# Altium footprint library Notecarrier AF.PcbLib: 40 footprints (part 2 of 3)
Each footprint in its own frame and in the unit in brackets; x right, y up, seen from the top. Pads: shape width x height; smd on the part's side, far side on the other; paste and mask are expansions set on the pad; w line width, h text height; cw(c..) or ccw(c..) is an arc to the next point about the centre after c.
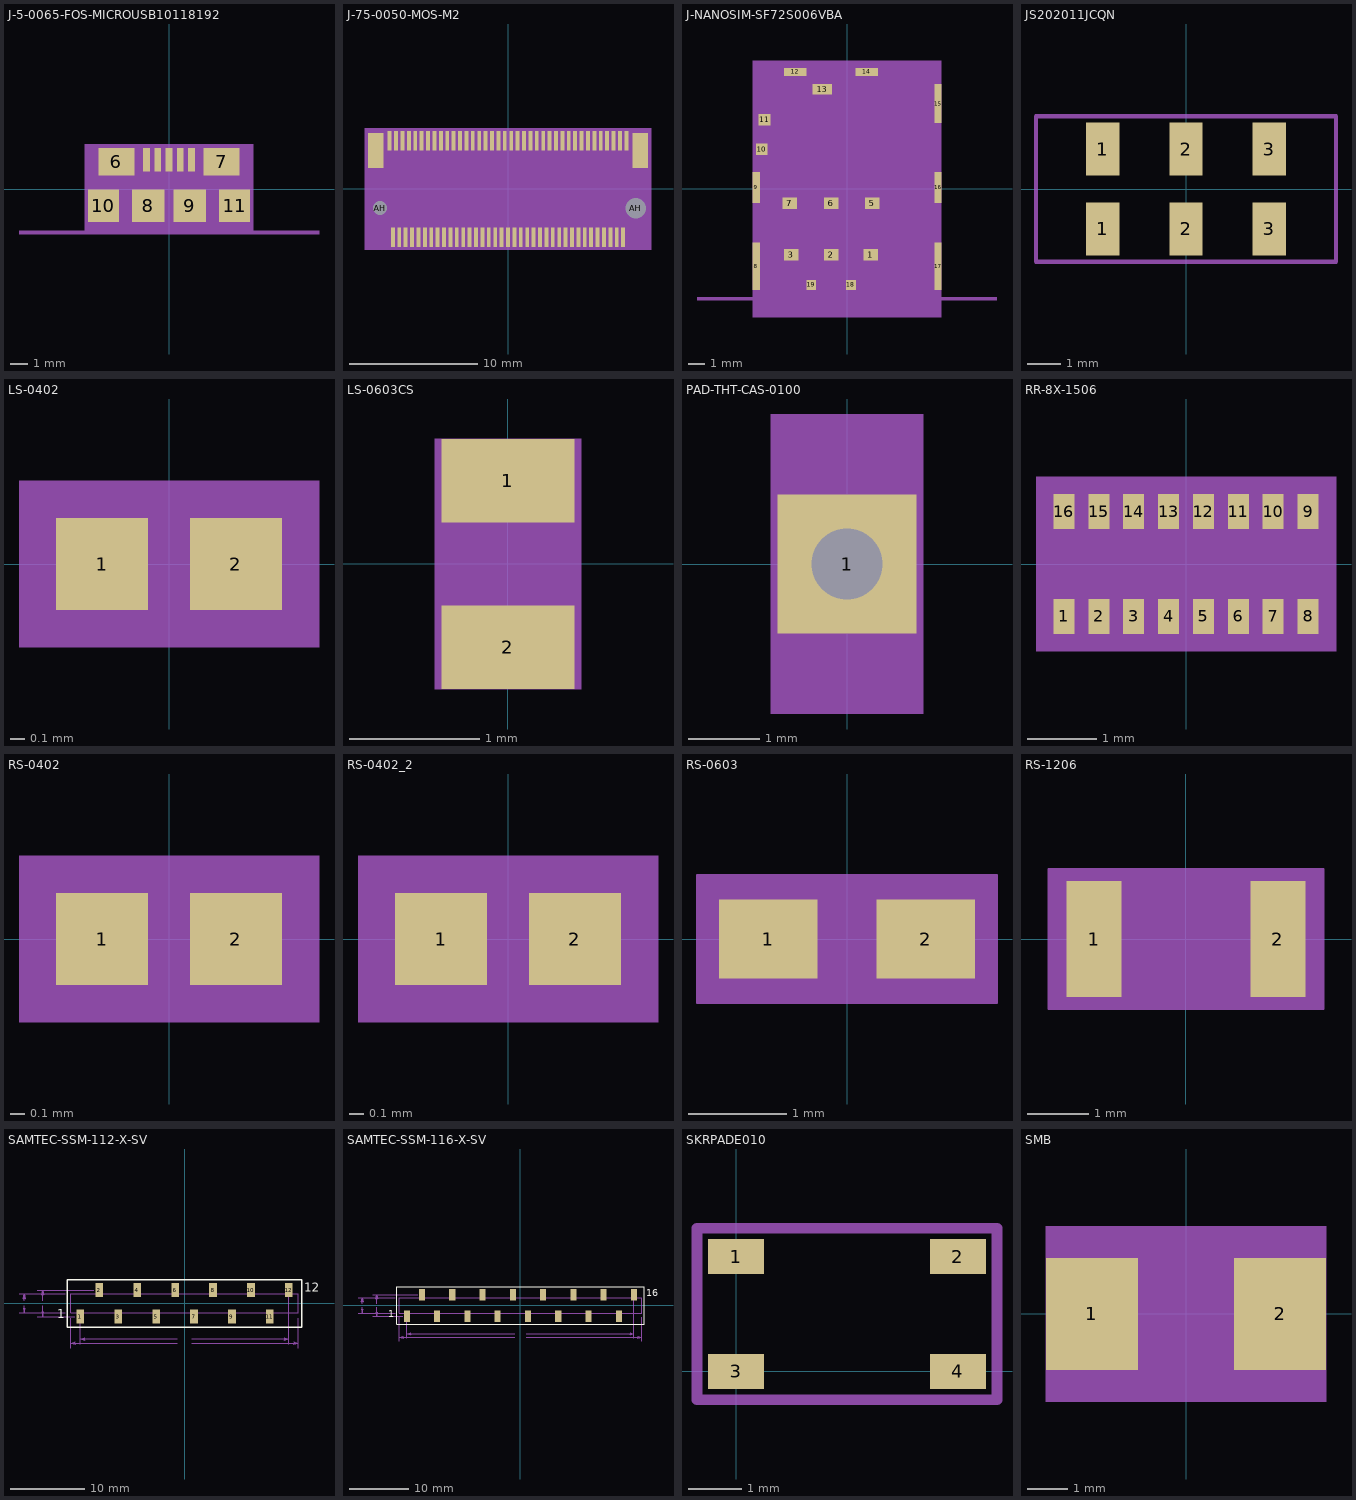
[diagram p1: the footprints below, top view; thin cyan lines are the x and y axes]

## J-5-0065-FOS-MICROUSB10118192 [mm]
pads (11):
  rect 0.4x1.35 smd: 1(-1.3,1.713) 2(-0.65,1.713) 3(0,1.713) 4(0.65,1.713) 5(1.3,1.713)
  rect 2.1x1.6 smd: 6(-3.05,1.587) 7(3.05,1.587)
  rect 1.9x1.9 smd: 8(-1.2,-0.962) 9(1.2,-0.962)
  rect 1.8x1.9 smd: 10(-3.8,-0.962) 11(3.8,-0.962)
Top 3D Body:
  region: -4.9,-2.612 -4.9,2.612 4.9,2.612 4.9,-2.612
Mechanical 19:
  text "1" at -1.3,1.583 h0.2
  text "2" at -0.65,1.583 h0.2
  text "6" at -3.05,1.433 h0.2
  text "3" at 0,1.583 h0.2
  text "5" at 1.3,1.583 h0.2
  text "4" at 0.65,1.583 h0.2
  text "7" at 3.05,1.382 h0.2
  text "8" at -1.2,-1.142 h0.2
  text "10" at -3.8,-1.222 h0.2
  text "9" at 1.2,-1.142 h0.2
  text "11" at 3.8,-1.222 h0.2
Top Assembly:
  dashed: -8.7,-2.612 -8.7,-2.412 -4.9,-2.412 -4.9,2.612 4.9,2.612 4.9,-2.412 8.7,-2.412 8.7,-2.612
  pour cut-out: 4.7,-2.412 -4.7,-2.412 -4.7,2.412 4.7,2.412
  text "EDGE" at -8.7,-2.213 h0.8
  text "EDGE" at 4.9,-2.213 h0.8
3D body "J-5-0065-FOS-MICROUSB10118192.stp": height 4.52, standoff -2.06, extent -5.773,-43.099 5.802,1.951

## J-75-0050-MOS-M2 [mm]
pads (79):
  rect 0.3x1.55 smd: 1(-9.25,3.775) 2(-9,-3.775) 3(-8.75,3.775) 4(-8.5,-3.775) 5(-8.25,3.775) 6(-8,-3.775) 7(-7.75,3.775) 8(-7.5,-3.775) 9(-7.25,3.775) 10(-7,-3.775) 11(-6.75,3.775) 12(-6.5,-3.775) 13(-6.25,3.775) 14(-6,-3.775) 15(-5.75,3.775) 16(-5.5,-3.775) 17(-5.25,3.775) 18(-5,-3.775) 19(-4.75,3.775) 20(-4.5,-3.775) 21(-4.25,3.775) 22(-4,-3.775) 23(-3.75,3.775) 24(-3.5,-3.775) 25(-3.25,3.775) 26(-3,-3.775) 27(-2.75,3.775) 28(-2.5,-3.775) 29(-2.25,3.775) 30(-2,-3.775) 31(-1.75,3.775) 32(-1.5,-3.775) 33(-1.25,3.775) 34(-1,-3.775) 35(-0.75,3.775) 36(-0.5,-3.775) 37(-0.25,3.775) 38(0,-3.775) 39(0.25,3.775) 40(0.5,-3.775) 41(0.75,3.775) 42(1,-3.775) 43(1.25,3.775) 44(1.5,-3.775) 45(1.75,3.775) 46(2,-3.775) 47(2.25,3.775) 48(2.5,-3.775) 49(2.75,3.775) 50(3,-3.775) 51(3.25,3.775) 52(3.5,-3.775) 53(3.75,3.775) 54(4,-3.775) 55(4.25,3.775) 56(4.5,-3.775) 57(4.75,3.775) 58(5,-3.775) 59(5.25,3.775) 60(5.5,-3.775) 61(5.75,3.775) 62(6,-3.775) 63(6.25,3.775) 64(6.5,-3.775) 65(6.75,3.775) 66(7,-3.775) 67(7.25,3.775) 68(7.5,-3.775) 69(7.75,3.775) 70(8,-3.775) 71(8.25,3.775) 72(8.5,-3.775) 73(8.75,3.775) 74(9,-3.775) 75(9.25,3.775)
  round 1 hole 1.1 unplated: AH(-10,-1.5)
  round 1 hole 1.6 unplated: AH(10,-1.5)
  rect 1.2x2.75 smd: ""(-10.35,3) ""(10.35,3)
Top 3D Body:
  region: -11.2,4.75 11.2,4.75 11.2,-4.75 -11.2,-4.75
Mechanical 19:
  text "71" at 8.09,3.775 h0.2
  text "73" at 8.59,3.775 h0.2
  text "69" at 7.59,3.775 h0.2
  text "75" at 9.09,3.775 h0.2
  text "61" at 5.59,3.775 h0.2
  text "63" at 6.09,3.775 h0.2
  text "59" at 5.09,3.775 h0.2
  text "67" at 7.09,3.775 h0.2
  text "65" at 6.59,3.775 h0.2
  text "53" at 3.59,3.775 h0.2
  text "49" at 2.59,3.775 h0.2
  text "51" at 3.09,3.775 h0.2
  text "47" at 2.09,3.775 h0.2
  text "57" at 4.59,3.775 h0.2
  text "55" at 4.09,3.775 h0.2
  text "39" at 0.09,3.775 h0.2
  text "41" at 0.59,3.775 h0.2
  text "37" at -0.41,3.775 h0.2
  text "45" at 1.59,3.775 h0.2
  text "43" at 1.09,3.775 h0.2
  text "68" at 7.34,-3.775 h0.2
  text "70" at 7.84,-3.775 h0.2
  text "66" at 6.84,-3.775 h0.2
  text "74" at 8.84,-3.775 h0.2
  text "72" at 8.34,-3.775 h0.2
  text "62" at 5.84,-3.775 h0.2
  text "64" at 6.34,-3.775 h0.2
  text "58" at 4.84,-3.775 h0.2
  text "60" at 5.34,-3.775 h0.2
  text "52" at 3.34,-3.775 h0.2
  text "48" at 2.34,-3.775 h0.2
  text "50" at 2.84,-3.775 h0.2
  text "46" at 1.84,-3.775 h0.2
  text "56" at 4.34,-3.775 h0.2
  text "54" at 3.84,-3.775 h0.2
  text "40" at 0.34,-3.775 h0.2
  text "38" at -0.16,-3.775 h0.2
  text "44" at 1.34,-3.775 h0.2
  text "42" at 0.84,-3.775 h0.2
  text "33" at -1.41,3.775 h0.2
  text "35" at -0.91,3.775 h0.2
  text "31" at -1.91,3.775 h0.2
  text "30" at -2.16,-3.775 h0.2
  text "29" at -2.41,3.775 h0.2
  text "21" at -4.41,3.775 h0.2
  text "23" at -3.91,3.775 h0.2
  text "19" at -4.91,3.775 h0.2
  text "27" at -2.91,3.775 h0.2
  text "25" at -3.41,3.775 h0.2
  text "11" at -6.91,3.775 h0.2
  text "13" at -6.41,3.775 h0.2
  text "9" at -7.33,3.775 h0.2
  text "17" at -5.41,3.775 h0.2
  text "15" at -5.91,3.775 h0.2
  text "5" at -8.33,3.775 h0.2
  text "7" at -7.83,3.775 h0.2
  text "3" at -8.83,3.775 h0.2
  text "1" at -9.33,3.775 h0.2
  text "28" at -2.66,-3.775 h0.2
  text "32" at -1.66,-3.775 h0.2
  text "26" at -3.16,-3.775 h0.2
  text "36" at -0.66,-3.775 h0.2
  text "34" at -1.16,-3.775 h0.2
  text "24" at -3.66,-3.775 h0.2
  text "22" at -4.16,-3.775 h0.2
  text "16" at -5.66,-3.775 h0.2
  text "12" at -6.66,-3.775 h0.2
  text "14" at -6.16,-3.775 h0.2
  text "10" at -7.16,-3.775 h0.2
  text "20" at -4.66,-3.775 h0.2
  text "18" at -5.16,-3.775 h0.2
  text "4" at -8.58,-3.775 h0.2
  text "2" at -9.08,-3.775 h0.2
  text "8" at -7.58,-3.775 h0.2
  text "6" at -8.08,-3.775 h0.2
Top Assembly:
  pour cut-out: -11,-4.55 -11,4.55 11,4.55 11,-4.55
  dashed: -11.2,4.75 11.2,4.75 11.2,-4.75 -11.2,-4.75
3D body "J-75-0050-MOS-M2.stp": height 4.1, standoff -0.6, extent -10.95,-4.374 10.95,4.326

## J-NANOSIM-SF72S006VBA [mm]
pads (18):
  rect 0.9x0.7 smd: 1(1.46,-4.05) 2(-0.98,-4.05) 3(-3.42,-4.05) 5(1.56,-0.88) 6(-0.98,-0.88) 7(-3.52,-0.88)
  rect 0.45x2.9 smd: 8(-5.575,-4.75) 17(5.6,-4.75)
  rect 0.45x1.9 smd: 9(-5.575,0.1) 16(5.6,0.1)
  rect 0.7x0.7 smd: 10(-5.25,2.45)
  rect 0.75x0.7 smd: 11(-5.075,4.25)
  rect 1.4x0.5 smd: 12(-3.18,7.2) 14(1.22,7.2)
  rect 1.2x0.65 smd: 13(-1.53,6.125)
  rect 0.45x2.4 smd: 15(5.6,5.25)
  rect 0.6x0.6 smd: 18(0.24,-5.9) 19(-2.2,-5.9)
Top 3D Body:
  region: -5.8,-7.9 -5.8,7.9 5.8,7.9 5.8,-7.9
Mechanical 17:
  text "17" at 5.76,-4.75 h0.2
  text "18" at 0.4,-5.9 h0.2
  text "5" at 1.64,-0.88 h0.2
  text "2" at -0.9,-4.05 h0.2
  text "1" at 1.54,-4.05 h0.2
  text "6" at -0.9,-0.88 h0.2
  text "19" at -2.04,-5.9 h0.2
  text "3" at -3.34,-4.05 h0.2
  text "8" at -5.495,-4.75 h0.2
  text "7" at -3.44,-0.88 h0.2
  text "16" at 5.76,0.1 h0.2
  text "15" at 5.76,5.25 h0.2
  text "13" at -1.37,6.125 h0.2
  text "14" at 1.38,7.2 h0.2
  text "9" at -5.495,0.1 h0.2
  text "12" at -3.02,7.2 h0.2
  text "10" at -5.09,2.45 h0.2
  text "11" at -4.915,4.25 h0.2
Mechanical 18:
  pour cut-out: 5.6,-6.65 -5.6,-6.65 -5.6,7.7 5.6,7.7
  dashed: -9.23,-6.85 -9.23,-6.675 -5.8,-6.675 -5.8,7.9 5.8,7.9 5.8,-6.675 9.23,-6.675 9.23,-6.85
  lines w0.025: -4.145,-5.675 -2.695,-5.675 -2.695,-2.425 -4.145,-2.425 -4.145,-5.675 ; -3.97,-1.23 -3.07,-1.23 -3.07,0.65 -3.97,0.65 -3.97,-1.23 ; -2.68,3.7 1.87,3.7 1.87,6.4 -2.68,6.4 -2.68,3.7 ; -1.705,-5.675 -0.255,-5.675 -0.255,-2.425 -1.705,-2.425 -1.705,-5.675 ; -1.43,-1.23 -0.53,-1.23 -0.53,0.65 -1.43,0.65 -1.43,-1.23 ; 0.735,-5.675 2.185,-5.675 2.185,-2.425 0.735,-2.425 0.735,-5.675 ; 1.11,-1.23 2.01,-1.23 2.01,0.65 1.11,0.65 1.11,-1.23
  text "EDGE" at 5.8,-6.475 h1
  text "EDGE" at -9.23,-6.475 h1
  text "Only GND Trace" at 3.657,4.057 h0.3
Mechanical255:
  region: -5.8,-6.85 -5.8,-6.5 -5.6,-6.5 -5.6,-6.65 5.6,-6.65 5.6,-6.5 5.8,-6.5 5.8,-6.85
  region: -5.8,3.1 -5.8,7.9 5.8,7.9 5.8,6.8 5.6,6.8 5.6,7.7 -5.6,7.7 -5.6,3.1
  region: 5.6,1.4 5.6,3.7 5.8,3.7 5.8,1.4
  region: 5.6,-3 5.6,-1.2 5.8,-1.2 5.8,-3
  region: -5.8,-3 -5.8,-1.2 -5.6,-1.2 -5.6,-3
  region: -5.8,1.8 -5.8,1.4 -5.6,1.4 -5.6,1.8
3D body "J-NANOSIM-SF72S006VBA.stp": height 1.25, standoff 0, extent -5.575,-7.425 5.645,7.625

## JS202011JCQN [mm]
pads (6):
  rect 1x1.6 smd: 1(-2.5,-1.2) 1(-2.5,1.2) 2(0,-1.2) 2(0,1.2) 3(2.5,-1.2) 3(2.5,1.2)
Mechanical 5:
  lines w0.127: -4.5,-2.18 -4.5,2.18 4.5,2.18 4.5,-2.18 -4.5,-2.18

## LS-0402 [mm]
pads (2):
  rect 0.62x0.62 smd: 1(-0.45,0) 2(0.45,0)
Mechanical 19:
  text "1" at -0.37,0 h0.2
  text "2" at 0.53,0 h0.2
Top Assembly:
  pour cut-out: 0.81,-0.36 -0.81,-0.36 -0.81,0.36 0.81,0.36
  dashed: -1.01,-0.56 -1.01,0.56 1.01,0.56 1.01,-0.56
3D body "LS-0402.stp": height 0.36, standoff 0, extent -0.5,-0.265 0.5,0.265

## LS-0603CS [mm]
pads (2):
  rect 1.02x0.64 smd: 1(0,0.64) 2(0,-0.64)
Mechanical 19:
  text "1" at 0.08,0.64 h0.2
  text "2" at 0.08,-0.64 h0.2
Top Assembly:
  pour cut-out: -0.56,-0.96 -0.56,0.96 0.56,0.96 0.56,-0.96
3D body "LS-0603CS.stp": height 1.02, standoff 0, extent -0.56,-0.9 0.56,0.9

## PAD-THT-CAS-0100 [mm]
pads (1):
  rect 1.94x1.94 / inner round 0 / far side rect 1.94x4 hole 1: 1(0,0)
Top 3D Body:
  region: -1.07,-2.1 1.07,-2.1 1.07,2.1 -1.07,2.1
Mechanical 26:
  text "1" at 0,0.08 h0.2
3D body: height 0, standoff 0, extent -1.07,-2.1 1.07,2.1

## RR-8X-1506 [mm]
pads (16):
  rect 0.3x0.5 smd: 1(-1.75,-0.75) 2(-1.25,-0.75) 3(-0.75,-0.75) 4(-0.25,-0.75) 5(0.25,-0.75) 6(0.75,-0.75) 7(1.25,-0.75) 8(1.75,-0.75) 9(1.75,0.75) 10(1.25,0.75) 11(0.75,0.75) 12(0.25,0.75) 13(-0.25,0.75) 14(-0.75,0.75) 15(-1.25,0.75) 16(-1.75,0.75)
Mechanical 19:
  text "16" at -1.75,0.91 h0.2
  text "14" at -0.75,0.91 h0.2
  text "15" at -1.25,0.91 h0.2
  text "12" at 0.25,0.91 h0.2
  text "13" at -0.25,0.91 h0.2
  text "10" at 1.25,0.91 h0.2
  text "11" at 0.75,0.91 h0.2
  text "2" at -1.25,-0.67 h0.2
  text "1" at -1.75,-0.67 h0.2
  text "4" at -0.25,-0.67 h0.2
  text "3" at -0.75,-0.67 h0.2
  text "6" at 0.75,-0.67 h0.2
  text "5" at 0.25,-0.67 h0.2
  text "9" at 1.75,0.83 h0.2
  text "7" at 1.25,-0.67 h0.2
  text "8" at 1.75,-0.67 h0.2
Top Assembly:
  dashed: -2.15,-1.25 -2.15,1.25 2.15,1.25 2.15,-1.25
  pour cut-out: 1.95,-1.05 -1.95,-1.05 -1.95,1.05 1.95,1.05
3D body "RR-8X-1506.stp": height 0.45, standoff 0, extent -1.9,-0.8 1.9,0.8

## RS-0402 [mm]
pads (2):
  rect 0.62x0.62 smd: 1(-0.45,0) 2(0.45,0)
Mechanical 19:
  text "1" at -0.53,0 h0.2
  text "2" at 0.37,0 h0.2
Top Assembly:
  pour cut-out: 0.81,-0.36 -0.81,-0.36 -0.81,0.36 0.81,0.36
  dashed: -1.01,-0.56 -1.01,0.56 1.01,0.56 1.01,-0.56
3D body "RS-0402.stp": height 0.41, standoff 0, extent -0.575,-0.275 0.575,0.275

## RS-0402_2 [mm]
pads (2):
  rect 0.62x0.62 smd: 1(-0.45,0) 2(0.45,0)
Mechanical 19:
  text "1" at -0.53,0 h0.2
  text "2" at 0.37,0 h0.2
Top Assembly:
  pour cut-out: 0.81,-0.36 -0.81,-0.36 -0.81,0.36 0.81,0.36
  dashed: -1.01,-0.56 -1.01,0.56 1.01,0.56 1.01,-0.56
3D body "RS-0402.stp": height 0.41, standoff 0, extent -0.575,-0.275 0.575,0.275

## RS-0603 [mm]
pads (2):
  rect 1x0.8 smd: 1(-0.8,0) 2(0.8,0)
Top 3D Body:
  lines w0.025: -1.525,-0.65 -1.525,0.65 1.525,0.65 1.525,-0.65 -1.525,-0.65
Mechanical 26:
  text "2" at 0.738,-0.113 h0.2
  text "1" at -0.857,-0.093 h0.2
Top Assembly:
  pour cut-out: 1.325,-0.45 -1.325,-0.45 -1.325,0.45 1.325,0.45
  dashed: -1.525,0.65 -1.525,-0.65 1.525,-0.65 1.525,0.65
3D body "RS-0603.stp": height 0.57, standoff 0.01, extent -0.85,-0.4 0.85,0.4

## RS-1206 [mm]
pads (2):
  rect 0.9x1.9 smd: 1(-1.5,0) 2(1.5,0)
Top 3D Body:
  lines w0.025: -2.25,-1.15 -2.25,1.15 2.25,1.15 2.25,-1.15 -2.25,-1.15
Mechanical 19:
  text "2" at 1.437,-0.097 h0.2
  text "1" at -1.56,-0.1 h0.2
Top Assembly:
  dashed: -2.25,1.15 -2.25,-1.15 2.25,-1.15 2.25,1.15
  pour cut-out: 2.05,-0.95 -2.05,-0.95 -2.05,0.95 2.05,0.95
3D body "RS-1206.stp": height 0.85, standoff 0, extent -1.675,-0.865 1.675,0.865

## SAMTEC-SSM-112-X-SV [mil]
height 23.62
pads (12):
  rect 40.16x75 smd: 1(-550,-70) 2(-450,70) 3(-350,-70) 4(-250,70) 5(-150,-70) 6(-50,70) 7(50,-70) 8(150,70) 9(250,-70) 10(350,70) 11(450,-70) 12(550,70)
Top Overlay:
  lines w7.87: -617.72,-125.28 617.72,-125.28 617.72,125.28 -617.72,125.28 -617.72,-125.28
  text "12" at 631.14,45 h77.5
  text "1" at -671.65,-95 h77.5
Top Paste:
  rectangle: 529.92,32.5 570.08,107.5
  rectangle: 429.92,-107.5 470.08,-32.5
  rectangle: 329.92,32.5 370.08,107.5
  rectangle: 229.92,-107.5 270.08,-32.5
  rectangle: 129.92,32.5 170.08,107.5
  rectangle: 29.92,-107.5 70.08,-32.5
  rectangle: -70.08,32.5 -29.92,107.5
  rectangle: -170.08,-107.5 -129.92,-32.5
  rectangle: -270.08,32.5 -229.92,107.5
  rectangle: -370.08,-107.5 -329.92,-32.5
  rectangle: -470.08,32.5 -429.92,107.5
  rectangle: -570.08,-107.5 -529.92,-32.5
Top Solder:
  rectangle: 527.91,30.49 572.09,109.51
  rectangle: 427.91,-109.51 472.09,-30.49
  rectangle: 327.91,30.49 372.09,109.51
  rectangle: 227.91,-109.51 272.09,-30.49
  rectangle: 127.91,30.49 172.09,109.51
  rectangle: 27.91,-109.51 72.09,-30.49
  rectangle: -72.09,30.49 -27.91,109.51
  rectangle: -172.09,-109.51 -127.91,-30.49
  rectangle: -272.09,30.49 -227.91,109.51
  rectangle: -372.09,-109.51 -327.91,-30.49
  rectangle: -472.09,30.49 -427.91,109.51
  rectangle: -572.09,-109.51 -527.91,-30.49
Mechanical 16:
  lines w3.94: -560,-50 -560,-90 -540,-90 -540,-50 ; -400.2,-50 -300,-50 -200,-50 ; -400,-50 -500,-50 -600,-50 -600,50 -500,50 -399.8,50 ; -400,50 -300,50 -199.8,50 ; -200.2,-50 -100,-50 0,-50 ; -200,50 -100,50 0.2,50 ; -0.2,-50 100,-50 200,-50 ; 0,50 100,50 200.2,50 ; 199.8,-50 300,-50 400,-50 ; 200,50 300,50 400.2,50 ; 399.8,-50 500,-50 600,-50 600,50 500,50 400,50 ; 540,50 540,90 560,90 560,50 ; -460,50 -450,50 -440,50 -440,90 -460,90 -460,50 ; -360,-90 -340,-90 -340,-50 -350,-50 -360,-50 -360,-90 ; -260,50 -250,50 -240,50 -240,90 -260,90 -260,50 ; -160,-90 -140,-90 -140,-50 -150,-50 -160,-50 -160,-90 ; -60,50 -50,50 -40,50 -40,90 -60,90 -60,50 ; 40,-90 60,-90 60,-50 50,-50 40,-50 40,-90 ; 140,50 150,50 160,50 160,90 140,90 140,50 ; 240,-90 260,-90 260,-50 250,-50 240,-50 240,-90 ; 340,50 350,50 360,50 360,90 340,90 340,50 ; 440,-90 460,-90 460,-50 450,-50 440,-50 440,-90
  text "12" at 631.14,45 h77.5
  text "1" at -671.65,-95 h77.5
Mechanical40:
  lines w0: -872.6,-50 -627.6,-50 ; -872.6,50 -627.6,50 ; -845,-12.52 -845,-50 ; -845,12.52 -845,50 ; -775.12,-70 -577.6,-70 ; -775.12,70 -477.6,70 ; -747.48,-12.52 -747.48,-70 ; -747.48,12.52 -747.48,70 ; -600,-237.6 -600,-77.6 ; -550,-215.12 -550,-97.6 ; -39.02,-210 -600,-210 ; -39.02,-187.48 -550,-187.48 ; 39.02,-210 600,-210 ; 39.02,-187.48 550,-187.48 ; 550,-215.12 550,42.4 ; 600,-237.6 600,-77.6 ; -851.26,-25 -848.11,-27.48 -845,-50 ; -851.26,-25 -845,-30 ; -851.26,-25 -845,-50 ; -845,-50 -845,-30 ; -845,-50 -841.89,-27.48 -845,-30 ; -845,-50 -838.74,-25 -845,-30 ; -845,30 -845,50 ; -845,30 -848.11,27.48 -845,50 ; -845,30 -838.74,25 ; -845,30 -851.26,25 -845,50 ; -845,50 -841.89,27.48 -838.74,25 ; -845,50 -838.74,25 ; -753.74,-45 -750.63,-47.48 -747.48,-70 ; -753.74,-45 -747.48,-50 ; -753.74,-45 -747.48,-70 ; -747.48,-70 -747.48,-50 ; -747.48,-70 -744.37,-47.48 -747.48,-50 ; -747.48,-70 -741.26,-45 -747.48,-50 ; -747.48,50 -747.48,70 ; -747.48,50 -750.63,47.48 -747.48,70 ; -747.48,50 -741.26,45 ; -747.48,50 -753.74,45 -747.48,70 ; -747.48,70 -744.37,47.48 -741.26,45 ; -747.48,70 -741.26,45 ; -600,-210 -577.48,-206.89 -575,-203.74 ; -600,-210 -580,-210 ; -600,-210 -577.48,-213.11 -580,-210 ; -600,-210 -575,-216.26 -580,-210 ; -600,-210 -575,-203.74 ; -580,-210 -575,-203.74 ; -550,-187.48 -527.48,-184.37 -525,-181.26 ; -550,-187.48 -530,-187.48 ; -550,-187.48 -527.48,-190.63 -530,-187.48 ; -550,-187.48 -525,-193.74 -530,-187.48 ; -550,-187.48 -525,-181.26 ; -530,-187.48 -525,-181.26 ; 525,-193.74 527.48,-190.63 550,-187.48 ; 525,-193.74 530,-187.48 ; 525,-193.74 550,-187.48 ; 530,-187.48 550,-187.48 ; 530,-187.48 527.48,-184.37 550,-187.48 ; 530,-187.48 525,-181.26 550,-187.48 ; 575,-216.26 577.48,-213.11 600,-210 ; 575,-216.26 580,-210 ; 575,-216.26 600,-210 ; 580,-210 600,-210 ; 580,-210 577.48,-206.89 600,-210 ; 580,-210 575,-203.74 600,-210
  text "30.480" at -31.5,-215 h15.5
  text "27.940" at -31.5,-192.52 h15.5
  text "3.556" at -773.5,-5 h15.5
  text "2.540" at -870.98,-5 h15.5

## SAMTEC-SSM-116-X-SV [mil]
height 23.62
pads (16):
  rect 40.16x75 smd: 1(-750,-70) 2(-650,70) 3(-550,-70) 4(-450,70) 5(-350,-70) 6(-250,70) 7(-150,-70) 8(-50,70) 9(50,-70) 10(150,70) 11(250,-70) 12(350,70) 13(450,-70) 14(550,70) 15(650,-70) 16(750,70)
Top Overlay:
  lines w7.87: -817.72,-125.28 817.72,-125.28 817.72,125.28 -817.72,125.28 -817.72,-125.28
  text "16" at 831.14,45 h77.5
  text "1" at -871.65,-95 h77.5
Top Paste:
  rectangle: 729.92,32.5 770.08,107.5
  rectangle: 629.92,-107.5 670.08,-32.5
  rectangle: 529.92,32.5 570.08,107.5
  rectangle: 429.92,-107.5 470.08,-32.5
  rectangle: 329.92,32.5 370.08,107.5
  rectangle: 229.92,-107.5 270.08,-32.5
  rectangle: 129.92,32.5 170.08,107.5
  rectangle: 29.92,-107.5 70.08,-32.5
  rectangle: -70.08,32.5 -29.92,107.5
  rectangle: -170.08,-107.5 -129.92,-32.5
  rectangle: -270.08,32.5 -229.92,107.5
  rectangle: -370.08,-107.5 -329.92,-32.5
  rectangle: -470.08,32.5 -429.92,107.5
  rectangle: -570.08,-107.5 -529.92,-32.5
  rectangle: -670.08,32.5 -629.92,107.5
  rectangle: -770.08,-107.5 -729.92,-32.5
Top Solder:
  rectangle: 727.91,30.49 772.09,109.51
  rectangle: 627.91,-109.51 672.09,-30.49
  rectangle: 527.91,30.49 572.09,109.51
  rectangle: 427.91,-109.51 472.09,-30.49
  rectangle: 327.91,30.49 372.09,109.51
  rectangle: 227.91,-109.51 272.09,-30.49
  rectangle: 127.91,30.49 172.09,109.51
  rectangle: 27.91,-109.51 72.09,-30.49
  rectangle: -72.09,30.49 -27.91,109.51
  rectangle: -172.09,-109.51 -127.91,-30.49
  rectangle: -272.09,30.49 -227.91,109.51
  rectangle: -372.09,-109.51 -327.91,-30.49
  rectangle: -472.09,30.49 -427.91,109.51
  rectangle: -572.09,-109.51 -527.91,-30.49
  rectangle: -672.09,30.49 -627.91,109.51
  rectangle: -772.09,-109.51 -727.91,-30.49
Mechanical 16:
  lines w3.94: -760,-50 -760,-90 -740,-90 -740,-50 ; -600.2,-50 -500,-50 -400,-50 ; -600,-50 -700,-50 -800,-50 -800,50 -700,50 -599.8,50 ; -600,50 -500,50 -399.8,50 ; -400.2,-50 -300,-50 -200,-50 ; -400,50 -300,50 -199.8,50 ; -200.2,-50 -100,-50 0,-50 ; -200,50 -100,50 0.2,50 ; -0.2,-50 100,-50 200,-50 ; 0,50 100,50 200.2,50 ; 199.8,-50 300,-50 400,-50 ; 200,50 300,50 400.2,50 ; 399.8,-50 500,-50 600,-50 ; 400,50 500,50 600.2,50 ; 599.8,-50 700,-50 800,-50 800,50 700,50 600,50 ; 740,50 740,90 760,90 760,50 ; -660,50 -650,50 -640,50 -640,90 -660,90 -660,50 ; -560,-90 -540,-90 -540,-50 -550,-50 -560,-50 -560,-90 ; -460,50 -450,50 -440,50 -440,90 -460,90 -460,50 ; -360,-90 -340,-90 -340,-50 -350,-50 -360,-50 -360,-90 ; -260,50 -250,50 -240,50 -240,90 -260,90 -260,50 ; -160,-90 -140,-90 -140,-50 -150,-50 -160,-50 -160,-90 ; -60,50 -50,50 -40,50 -40,90 -60,90 -60,50 ; 40,-90 60,-90 60,-50 50,-50 40,-50 40,-90 ; 140,50 150,50 160,50 160,90 140,90 140,50 ; 240,-90 260,-90 260,-50 250,-50 240,-50 240,-90 ; 340,50 350,50 360,50 360,90 340,90 340,50 ; 440,-90 460,-90 460,-50 450,-50 440,-50 440,-90 ; 540,50 550,50 560,50 560,90 540,90 540,50 ; 640,-90 660,-90 660,-50 650,-50 640,-50 640,-90
  text "16" at 831.14,45 h77.5
  text "1" at -871.65,-95 h77.5
Mechanical40:
  lines w0: -1072.6,-50 -827.6,-50 ; -1072.6,50 -827.6,50 ; -1045,-12.52 -1045,-50 ; -1045,12.52 -1045,50 ; -975.12,-70 -777.6,-70 ; -975.12,70 -677.6,70 ; -947.48,-12.52 -947.48,-70 ; -947.48,12.52 -947.48,70 ; -800,-237.6 -800,-77.6 ; -750,-215.12 -750,-97.6 ; -39.02,-210 -800,-210 ; -39.02,-187.48 -750,-187.48 ; 39.02,-210 800,-210 ; 39.02,-187.48 750,-187.48 ; 750,-215.12 750,42.4 ; 800,-237.6 800,-77.6 ; -1051.26,-25 -1048.11,-27.48 -1045,-50 ; -1051.26,-25 -1045,-30 ; -1051.26,-25 -1045,-50 ; -1045,-50 -1045,-30 ; -1045,-50 -1041.89,-27.48 -1045,-30 ; -1045,-50 -1038.74,-25 -1045,-30 ; -1045,30 -1045,50 ; -1045,30 -1048.11,27.48 -1045,50 ; -1045,30 -1038.74,25 ; -1045,30 -1051.26,25 -1045,50 ; -1045,50 -1041.89,27.48 -1038.74,25 ; -1045,50 -1038.74,25 ; -953.74,-45 -950.63,-47.48 -947.48,-70 ; -953.74,-45 -947.48,-50 ; -953.74,-45 -947.48,-70 ; -947.48,-70 -947.48,-50 ; -947.48,-70 -944.37,-47.48 -947.48,-50 ; -947.48,-70 -941.26,-45 -947.48,-50 ; -947.48,50 -947.48,70 ; -947.48,50 -950.63,47.48 -947.48,70 ; -947.48,50 -941.26,45 ; -947.48,50 -953.74,45 -947.48,70 ; -947.48,70 -944.37,47.48 -941.26,45 ; -947.48,70 -941.26,45 ; -800,-210 -777.48,-206.89 -775,-203.74 ; -800,-210 -780,-210 ; -800,-210 -777.48,-213.11 -780,-210 ; -800,-210 -775,-216.26 -780,-210 ; -800,-210 -775,-203.74 ; -780,-210 -775,-203.74 ; -750,-187.48 -727.48,-184.37 -725,-181.26 ; -750,-187.48 -730,-187.48 ; -750,-187.48 -727.48,-190.63 -730,-187.48 ; -750,-187.48 -725,-193.74 -730,-187.48 ; -750,-187.48 -725,-181.26 ; -730,-187.48 -725,-181.26 ; 725,-193.74 727.48,-190.63 750,-187.48 ; 725,-193.74 730,-187.48 ; 725,-193.74 750,-187.48 ; 730,-187.48 750,-187.48 ; 730,-187.48 727.48,-184.37 750,-187.48 ; 730,-187.48 725,-181.26 750,-187.48 ; 775,-216.26 777.48,-213.11 800,-210 ; 775,-216.26 780,-210 ; 775,-216.26 800,-210 ; 780,-210 800,-210 ; 780,-210 777.48,-206.89 800,-210 ; 780,-210 775,-203.74 800,-210
  text "40.640" at -31.5,-215 h15.5
  text "38.100" at -31.5,-192.52 h15.5
  text "2.540" at -1070.98,-5 h15.5
  text "3.556" at -973.5,-5 h15.5

## SKRPADE010 [mm]
pads (4):
  rect 1.05x0.65 smd: 1(0,2.15) 2(4.15,2.15) 3(0,0) 4(4.15,0)
Mechanical 5:
  lines w0.2: -0.73,2.67 -0.73,-0.53 4.88,-0.53 4.88,2.68 -0.73,2.68

## SMB [mm] "SMB"
pads (2):
  rect 2.3x2.8 smd: 1(-2.35,0) 2(2.35,0)
Top 3D Body:
  region: -3.5,-2.2 -3.5,2.2 3.5,2.2 3.5,-2.2
  lines w0.254: -2,-1.975 -2,1.975 ; -2,0 -0.025,-1.55 -0.025,1.55 -2,0
Mechanical 19:
  text "1" at -2.251,0.07 h0.2
  text "2" at 2.438,0.038 h0.2
Top Assembly:
  dashed: -3.05,1.6 -3.05,1.7 -2.55,2.2 2.95,2.2 2.95,1.6 2.75,1.6 2.75,2 -2.45,2 -2.85,1.6
  dashed: -2.55,-2.2 -3.05,-1.7 -3.05,-1.6 -2.85,-1.6 -2.45,-2 2.85,-2 2.85,-1.6 3.05,-1.6 3.05,-2.2
3D body "SMB.stp": height 2.65, standoff 0.01, extent -2.764,-1.975 2.824,1.975